# EAGLE library part ATTINY1607-MNR (library BLSpeakerAlwaysOnRobot)
None Check prices <https://pricing.snapeda.com/parts/ATTINY1607-MNR/Microchip%20Technology/view-part?ref=eda>
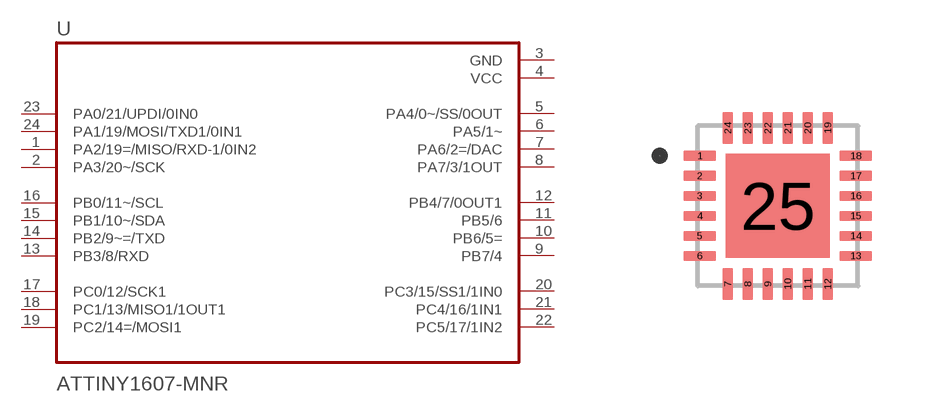
[diagram p0: symbol with the pads of QFN50P400X400X90-25N; footprint QFN50P400X400X90-25N]

Designator prefix U

## ATTINY1607-MNR  [QFN50P400X400X90-25N]
1  PA2/19=/MISO/RXD-1/0IN2
2  PA3/20~/SCK
3  GND  pwr
4  VCC  pwr
5  PA4/0~/SS/0OUT
6  PA5/1~
7  PA6/2=/DAC
8  PA7/3/1OUT
9  PB7/4
10  PB6/5=
11  PB5/6
12  PB4/7/0OUT1
13  PB3/8/RXD
14  PB2/9~=/TXD
15  PB1/10~/SDA
16  PB0/11~/SCL
17  PC0/12/SCK1
18  PC1/13/MISO1/1OUT1
19  PC2/14=/MOSI1
20  PC3/15/SS1/1IN0
21  PC4/16/1IN1
22  PC5/17/1IN2
23  PA0/21/UPDI/0IN0
24  PA1/19/MOSI/TXD1/0IN1

## Footprint QFN50P400X400X90-25N (pad centres in mm)
smd 0.81 x 0.26: 1 -1.95,1.25; 2 -1.95,0.75; 3 -1.95,0.25; 4 -1.95,-0.25; 5 -1.95,-0.75; 6 -1.95,-1.25; 13 1.95,-1.25; 14 1.95,-0.75; 15 1.95,-0.25; 16 1.95,0.25; 17 1.95,0.75; 18 1.95,1.25
smd 0.26 x 0.81: 7 -1.25,-1.95; 8 -0.75,-1.95; 9 -0.25,-1.95; 10 0.25,-1.95; 11 0.75,-1.95; 12 1.25,-1.95; 19 1.25,1.95; 20 0.75,1.95; 21 0.25,1.95; 22 -0.25,1.95; 23 -0.75,1.95; 24 -1.25,1.95
smd 2.6 x 2.6: 25 0,0